# Altium footprint library TCA8418.PcbLib: 1 footprints
Each footprint in its own frame and in the unit in brackets; x right, y up, seen from the top. Pads: shape width x height; smd on the part's side, far side on the other; paste and mask are expansions set on the pad; w line width, h text height; cw(c..) or ccw(c..) is an arc to the next point about the centre after c.
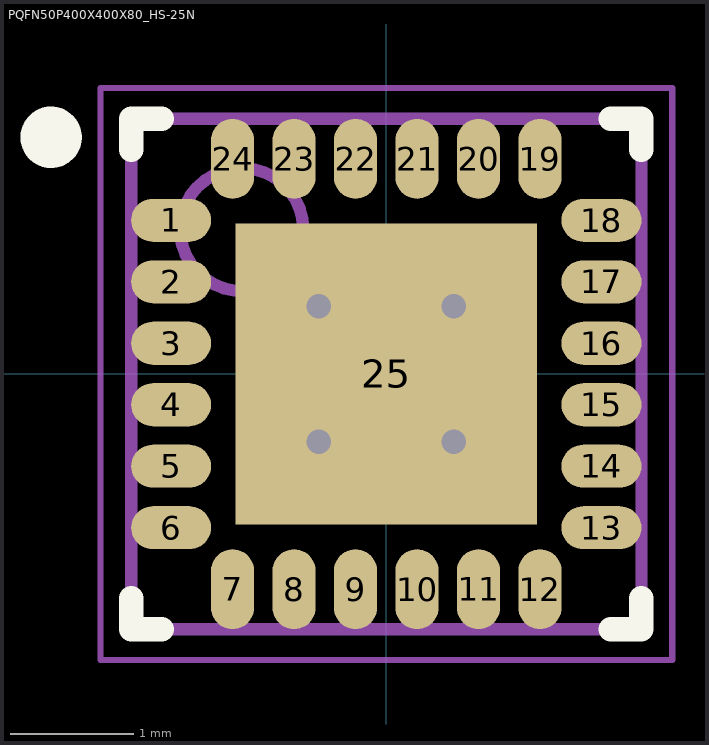
[diagram p0: the footprint, top view; thin cyan lines are the x and y axes]

## PQFN50P400X400X80_HS-25N [mm] "PQFN, 24-Leads, Body 4.00x4.00mm, Pitch 0.50mm, Thermal Pad 2.45x2.45mm, IPC Medium Density"
height 0.8
pads (25):
  oval 0.65x0.35 smd: 1(-1.75,1.25) 2(-1.75,0.75) 3(-1.75,0.25) 4(-1.75,-0.25) 5(-1.75,-0.75) 6(-1.75,-1.25) 13(1.75,-1.25) 14(1.75,-0.75) 15(1.75,-0.25) 16(1.75,0.25) 17(1.75,0.75) 18(1.75,1.25)
  oval 0.35x0.65 smd: 7(-1.25,-1.75) 8(-0.75,-1.75) 9(-0.25,-1.75) 10(0.25,-1.75) 11(0.75,-1.75) 12(1.25,-1.75) 19(1.25,1.75) 20(0.75,1.75) 21(0.25,1.75) 22(-0.25,1.75) 23(-0.75,1.75) 24(-1.25,1.75)
  rect 2.45x2.45 smd: 25(0,0)
via 0.55,-0.55 diameter 0.5 hole 0.2
via -0.55,-0.55 diameter 0.5 hole 0.2
via 0.55,0.55 diameter 0.5 hole 0.2
via -0.55,0.55 diameter 0.5 hole 0.2
Top Overlay:
  circle w0.25: c-2.725,1.925 r0.125
  lines w0.2: -2.075,-1.825 -2.075,-2.075 -1.825,-2.075 ; -2.075,1.825 -2.075,2.075 -1.825,2.075 ; 1.825,-2.075 2.075,-2.075 2.075,-1.825 ; 1.825,2.075 2.075,2.075 2.075,1.825
Mechanical 13:
  circle w0.1: c-1.175,1.175 r0.5
  lines w0.1: -2.075,-2.075 2.075,-2.075 2.075,2.075 -2.075,2.075 -2.075,-2.075
Mechanical 15:
  lines w0.05: -2.325,-2.325 2.325,-2.325 2.325,2.325 -2.325,2.325 -2.325,-2.325
  lines w0.1: -0.5,0 0.5,0 ; 0,-0.5 0,0.5
3D body: height 0.8, standoff 0.05, extent -2.075,-2.075 2.075,2.075